# EAGLE library part VNH5019 (library Pololu)
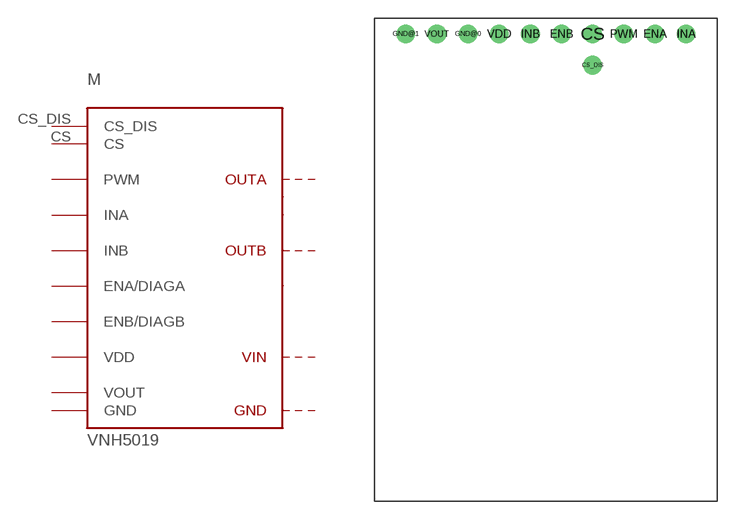
[diagram p0: symbol with the pads of VNH5019; footprint VNH5019]

Designator prefix M

## VNH5019  [VNH5019]
CS  CS
CS_DIS  CS_DIS
ENA  ENA/DIAGA  oc
ENB  ENB/DIAGB  oc
GND@0  GND  pwr
GND@1  GND  pwr
INA  INA  in
INB  INB  in
PWM  PWM  in
VDD  VDD  pwr
VOUT  VOUT  pwr

## Footprint VNH5019 (pad centres in mm)
drill 1.016: CS 15.24,0; CS_DIS 15.24,-2.54; ENA 20.32,0; ENB 12.7,0; GND@0 5.08,0; GND@1 0,0; INA 22.86,0; INB 10.16,0; PWM 17.78,0; VDD 7.62,0; VOUT 2.54,0